# Altium footprint library UU98Y10MH.PcbLib: 1 footprints
Each footprint in its own frame and in the unit in brackets; x right, y up, seen from the top. Pads: shape width x height; smd on the part's side, far side on the other; paste and mask are expansions set on the pad; w line width, h text height; cw(c..) or ccw(c..) is an arc to the next point about the centre after c.
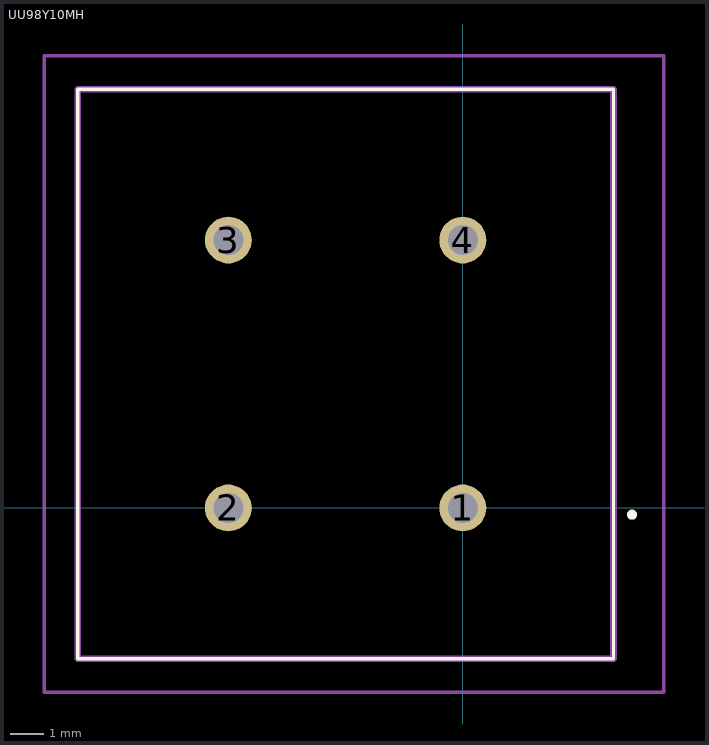
[diagram p0: the footprint, top view; thin cyan lines are the x and y axes]

## UU98Y10MH [mm]
pads (4):
  round 1.4 hole 0.9: 1(0,0) 2(-7,0) 3(-7,8) 4(0,8)
Top Overlay:
  lines w0.1: -11.5,-4.5 4.5,-4.5 4.5,12.5 -11.5,12.5 -11.5,-4.5
  lines w0.2: 5,-0.2 cw(c5.05,-0.2) 5.1,-0.2 ; 5,-0.2 ccw(c5.05,-0.2) 5.1,-0.2 ; 5,-0.2 cw(c5.05,-0.2) 5.1,-0.2
Mechanical 15:
  lines w0.2: -11.5,-4.5 -11.5,12.5 4.5,12.5 4.5,-4.5 -11.5,-4.5
Mechanical 20:
  lines w0.1: -12.5,-5.5 6,-5.5 6,13.5 -12.5,13.5 -12.5,-5.5
3D body "UU9.8Y-10MH.stp": height 14.1, standoff -5, extent -11.5,-4.5 4.5,12.5